# Altium schematic symbol library Diode.SchLib: 54 symbols
Pins are listed as number, name and electrical type; pins without a type are passive.

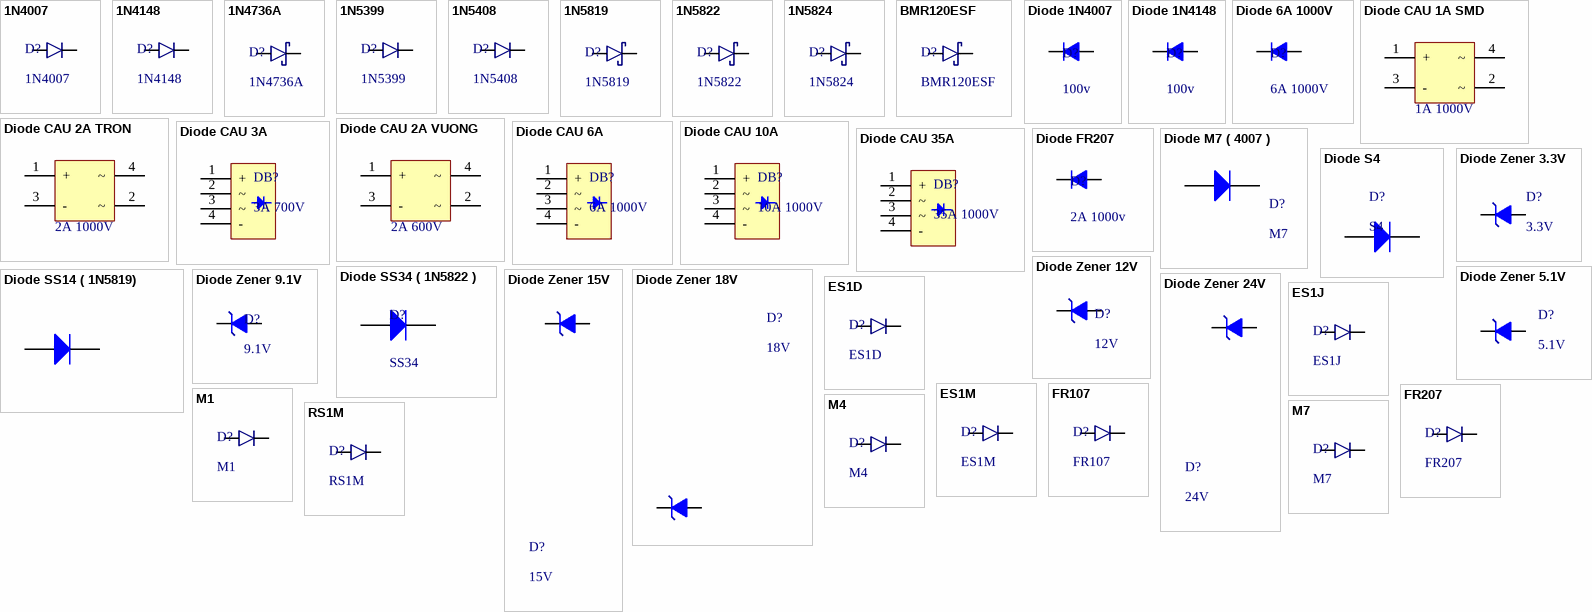
[diagram p0: symbols 1N4007 to RS1M]

## 1N4007
designator D?
Rectifier Diode 1000V 1A DO-41; Mouser PN: 637-1N4007; ComponentLink1Description: Datasheet; ComponentLink1URL: https://www.mouser.com/datasheet/2/849/1n4001-2577232.pdf; Digikey PN: 4617-1N4007TB-ND; JLCPCB PN: C3033995
footprint 1N4007 (Rectifier Diode 1000V 1A DO-41)
pins: 1, 2  

## 1N4148
designator D?
Diode Gen Purp 75V 300mA DO35; Digikey PN: 1655-1N4148CT-ND; Mouser PN: 637-1N5399; JLCPCB PN: C14516
footprint 1N4148 (Diode Gen Purp 75V 300mA DO35)
pins: 1, 2  

## 1N4736A
designator D?
Zener Diode 6.8V 1W DO-41; JLCPCB PN: C2539
footprint 1N4736A
pins: 1, 2  

## 1N5399
designator D?
Diode Gen Purp 1000V 1.5A DO15; Digikey PN: 2156-1N5399-ND; JLCPCB PN: C402215
footprint 1N5399 (Diode Gen Purp 1000V 1.5A DO15)
pins: 1, 2  

## 1N5408
designator D?
Diode Gen Purp 1000V 3A DO15; Mouser PN: 637-1N5408; Digikey PN: 2156-1N5408-ND; JLCPCB PN: C402216
footprint 1N5408 (Diode Gen Purp 1000V 3A DO15)
pins: 1, 2  

## 1N5819
designator D?
Rectifier Schottky 40V 1A DO-15; Mouser PN: 637-1N5819; ComponentLink1Description: Datasheet; ComponentLink1URL: https://www.mouser.com/datasheet/2/849/1n5817-2577238.pdf; Digikey PN: 497-6610-1-ND; JLCPCB PN: C437199
footprint 1N5819 (Rectifier Schottky 40V 1A DO-15 10mm)
pins: 1, 2  

## 1N5822
designator D?
Diode Schottky 40V 3A DO201AD; Digikey PN: 497-11370-1-ND; Mouser PN: 511-1N5822; JLCPCB PN: C3018526
footprint DO201AD
pins: 1, 2  

## 1N5824
designator D?
Diode Schottky 30V 5A DO201AD; JLCPCB PN: C508482
footprint DO201AD
pins: 1, 2  

## BMR120ESF
designator D?
Rectifier Schottky 20V 1A SOD−123FL.; ComponentLink1Description: Datasheet; ComponentLink1URL: https://www.onsemi.com/pdf/datasheet/mbr120esft1-d.pdf
footprint MBR120ESF
pins: 1, 2  

## Diode 1N4007
designator D?, comment 100v
Cắm; Ten_Linh_Kien: Diode 1N4007 1A (DIP); Don_Vi: Con; Ma_Hang: MH001063; Ghi Chu: *; Kieu_Chan: *; Chung_Loai: Cắm
footprint DIODE 1A (Diode 1A)
footprint DIODE 1A DUNG (Diode 1A DUNG)
pins: 1 A, 2 K

## Diode 1N4148
designator D?, comment 100v
Cắm; Ten_Linh_Kien: Diode 1N4148 DO35 450mA 100V ( 1N4148 DIP); Don_Vi: Con; Ma_Hang: MH001065; Ghi Chu: *; Kieu_Chan: *; Chung_Loai: Cắm
footprint DIODE 0.5A (Diode muoi, xung)
pins: 1 A, 2 K

## Diode 6A 1000V
designator D?, comment 6A 1000V
Cắm; Ten_Linh_Kien: Diode 6A10 6A 1000V (DIP); Don_Vi: Con; Ma_Hang: MH006103; Ghi Chu: *; Kieu_Chan: *; Chung_Loai: Cắm
footprint DIODE 7A (Diode 7A)
pins: 1 A, 2 K

## Diode CAU 1A SMD
designator D?, comment 1A 1000V
Dán; Ten_Linh_Kien: DBS10 SOP4 Diode Cầu 1A 1000V; Don_Vi: Con; Ma_Hang: MH009806; Ghi_Chu: *; Kieu_Chan: *; Chung_Loai: Dán
footprint DIODE CAU 1A SMD SOP4 (SOP4)
pins: 1 +, 2 ~, 3 -, 4 ~

## Diode CAU 2A TRON
designator D?, comment 2A 1000V
Cắm; Ten_Linh_Kien: Diode Cầu 2A 1000V 2W10 ( Tròn ); Don_Vi: Con; Ma_Hang: MH001205; Ghi_Chu: *; Kieu_Chan: *; Chung_Loai: Cắm
footprint DIODE CAU 1A CAM TRON
pins: 1 +, 2 ~, 3 -, 4 ~

## Diode CAU 2A VUONG
designator D?, comment 2A 600V
Cắm; Ten_Linh_Kien: Diode Cầu 2A 600V KBP206 Vuông; Don_Vi: Con; Ma_Hang: MH001206; Ghi_Chu: *; Kieu_Chan: *; Chung_Loai: Cắm
footprint DIODE CAU 2A 3A CAM
pins: 1 +, 2 ~, 3 -, 4 ~

## Diode CAU 3A
designator DB?, comment 3A 700V
Cắm; Ten_Linh_Kien: Diode Cầu 3A 700V KBP307 ( Vuông); Don_Vi: Con; Ma_Hang: MH001207; Ghi_Chu: *; Kieu_Chan: *; Chung_Loai: cắm
footprint DIODE CAU 2A 3A CAM
pins: 1 +, 2 ~, 3 ~, 4 -

## Diode CAU 6A
designator DB?, comment 6A 1000V
Cắm; Ten_Linh_Kien: Diode Cầu 6A 1000V KBL610; Don_Vi: Con; Ma_Hang: MH004297; Ghi_Chu: *; Kieu_Chan: *; Chung_Loai: cắm
footprint DIODE CAU 6A CAM
pins: 1 +, 2 ~, 3 ~, 4 -

## Diode CAU 10A
designator DB?, comment 10A 1000V
Cắm; Ten_Linh_Kien: Diode Cầu 10A 1000V KBU1010; Don_Vi: Con; Ma_Hang: MH004295; Ghi_Chu: *; Kieu_Chan: *; Chung_Loai: cắm
footprint DIODE CAU 10A CAM
pins: 1 +, 2 ~, 3 ~, 4 -

## Diode CAU 35A
designator DB?, comment 35A 1000V
Cắm; Ten_Linh_Kien: Diode Cầu 35A 1000V KBPC3510 (Loại Sắt); Don_Vi: Con; Ma_Hang: MH005029; Ghi_Chu: *; Kieu_Chan: *; Chung_Loai: cắm
footprint DIODE CAU 35A CAM (DIODE CAU 35A/1000V)
pins: 1 +, 2 ~, 3 ~, 4 -

## Diode FR207
designator D?, comment 2A 1000v
Cắm; Ten_Linh_Kien: Diode FR207 2A 1000V ( DIP); Don_Vi: Con; Ma_Hang: MH005704; Ghi Chu: *; Kieu_Chan: *; Chung_Loai: Cắm
footprint DIODE 2A (Diode 2A)
footprint DIODE 2A DUNG (Diode 2A DUNG)
pins: 1 A, 2 K

## Diode M7 ( 4007 )
designator D?, comment M7
Dán; Don_Vi: Con; Ten_Linh_Kien: Diode M7 1N4007 SMD 1A 1000V; Ma_Hang: MH000944; Chung_Loai: Dán; Ghi_Chu: *
footprint DIODE SMA (SMA)
pins: 1 A, 2 K

## Diode S4
designator D?, comment S4
Dán; Ten_Linh_Kien: Diode S4 SOD123 ( 1N5819 SOD123); Ma_Hang: MH005519; Don_Vi: Con; Ghi_Chu: *; Chung_Loai: Dán; Kieu_Chan: *
footprint DIODE SOD-123 (SOD-123)
pins: 1 A, 2 K

## Diode SS14 ( 1N5819)
designator D?, comment SS14
Dán; Ma_Hang: MH002211; Don_Vi: Con; Ten_Linh_Kien: Diode SS14 DO214 Schottky 1A 40V ( 1N5819 DO214); Chung_Loai: Dán; Ghi_Chu: *; Kieu_Chan: *
footprint DIODE SMA (SMA)
pins: 1 A, 2 K

## Diode SS34 ( 1N5822 )
designator D?, comment SS34
Dán; Don_Vi: Con; Ma_Hang: MH002104; Ten_Linh_Kien: Diode SS34 3A 40V SMA ( 1N5822 SS34A); Kieu_Chan: *; Chung_Loai: Dán
footprint DIODE SMA (SMA)
pins: 1 A, 2 K

## Diode Zener 3.3V
designator D?, comment 3.3V
Dán; Don_Vi: Con; Ma_Hang: MH002880; Ten_Linh_Kien: Diode Zener 1/2W 3.3V SMD1206 ZMM3.3; Kieu_Chan: *; Ghi_Chu: *; Chung_Loai: Dán
footprint DIODE ZENNER SMD SOD80 (SOD80)
pins: 1 A, 2 K

## Diode Zener 5.1V
designator D?, comment 5.1V
Dán; Ma_Hang: MH002881; Ten_Linh_Kien: Diode Zener 1/2W 5.1V SMD1206 ZMM5.1; Don_Vi: Con; Kieu_Chan: *; Ghi_Chu: *; Chung_Loai: Dán
footprint DIODE ZENNER SMD SOD80 (SOD80)
pins: 1 A, 2 K

## Diode Zener 9.1V
designator D?, comment 9.1V
Dán; Don_Vi: Con; Ma_Hang: MH002882; Ten_Linh_Kien: Diode Zener 1/2W 9.1V SMD1206 ZMM9.1; Ghi_Chu: *; Chung_Loai: Dán; Kieu_Chan: *
footprint DIODE ZENNER SMD SOD80 (SOD80)
pins: 1 A, 2 K

## Diode Zener 12V
designator D?, comment 12V
Dán; Ma_Hang: MH000945; Don_Vi: Con; Ten_Linh_Kien: Diode Zener 1/2W 12V SMD1206 ZMM12; Kieu_Chan: *; Ghi_Chu: *; Chung_Loai: Dán
footprint DIODE ZENNER SMD SOD80 (SOD80)
pins: 1 A, 2 K

## Diode Zener 15V
designator D?, comment 15V
Dán; Don_Vi: Con; Ma_Hang: MH002883; Ten_Linh_Kien: Diode Zener 1/2W 15V SMD1206 ZMM15; Ghi_Chu: *; Chung_Loai: Dán; Kieu_Chan: *
footprint DIODE ZENNER SMD SOD80 (SOD80)
pins: 1 A, 2 K

## Diode Zener 18V
designator D?, comment 18V
Dán; Don_Vi: Con; Ma_Hang: MH002884; Ten_Linh_Kien: Diode Zener 1/2W 18V SMD1206 ZMM18; Chung_Loai: Dán; Ghi_Chu: *; Kieu_Chan: *
footprint DIODE ZENNER SMD SOD80 (SOD80)
pins: 1 A, 2 K

## Diode Zener 24V
designator D?, comment 24V
Cắm; Don_Vi: Con; Ten_Linh_Kien: Diode Zener 1/2W 24V DIP 1N5252B; Ma_Hang: MH002878; Ghi_Chu: *; Kieu_Chan: *; Chung_Loai: Cắm
footprint DIODE ZENNER SMD SOD80 (SOD80)
pins: 1 A, 2 K

## ES1D
designator D?
Ultra Fast Recovery Rectifier 200V 1A SMA; Mouser PN: 512-ES1D; ComponentLink1Description: Datasheet; Digikey PN: ES1DFSTR-ND; JLCPCB PN: C1884566
footprint DIODE_SMA (Diode SMA)
pins: 1, 2  

## ES1J
designator D?
Ultra Fast Recovery Rectifier 600V 1A SMA; Mouser PN: 512-ES1J; ComponentLink1Description: Datasheet; Digikey PN: 4617-ES1JTR-ND; JLCPCB PN: C232830
footprint DIODE_SMA (Diode SMA)
pins: 1, 2  

## ES1M
designator D?
Ultra Fast Recovery Rectifier 1000V 1A SMA; Mouser PN: 833-ES1M-TP; ComponentLink1Description: Datasheet; Digikey PN: 1655-ES1MCT-ND; JLCPCB PN: C2891301
footprint DIODE_SMA (Diode SMA)
pins: 1, 2  

## FR107
designator D?
Diode Gen Purp 1000V 1A DO41; Digikey PN: 4617-FR107TB-ND; JLCPCB PN: C842808
footprint FR107 (Diode Gen Purp 1000V 1A DO41)
pins: 1, 2  

## FR207
designator D?
Diode Gen Purp 1000V 2A DO15; Digikey PN: 1655-FR207CT-ND; JLCPCB PN: C3011150
footprint FR207 (Diode Gen Purp 1000V 2A DO15)
pins: 1, 2  

## M1
designator D?
Rectifiers Diode 50V 1A SMA; ComponentLink1Description: Datasheet; Mouser PN: 637-M7; Digikey PN: 3191-M7CT-ND; JLCPCB PN: C2909964
footprint DIODE_SMA (Diode SMA)
pins: 1, 2  

## M4
designator D?
Rectifiers Diode 400V 1A SMA; ComponentLink1Description: Datasheet; Mouser PN: 637-M4; Digikey PN: 3372-M4TR-ND; JLCPCB PN: C383019
footprint DIODE_SMA (Diode SMA)
pins: 1, 2  

## M7
designator D?
Rectifiers Diode 1000V 1A SMA; ComponentLink1Description: Datasheet; Mouser PN: 637-M7; Digikey PN: 3191-M7CT-ND; JLCPCB PN: C330214
footprint DIODE_SMA (Diode SMA)
pins: 1, 2  

## RS1M
designator D?
Fast Recovery Rectifier 1000V 1A SMA; Mouser PN: 512-RS1M; ComponentLink1Description: Datasheet; Digikey PN: 1655-RS1MTR-ND; JLCPCB PN: C2931775
footprint DIODE_SMA (Diode SMA)
pins: 1, 2  

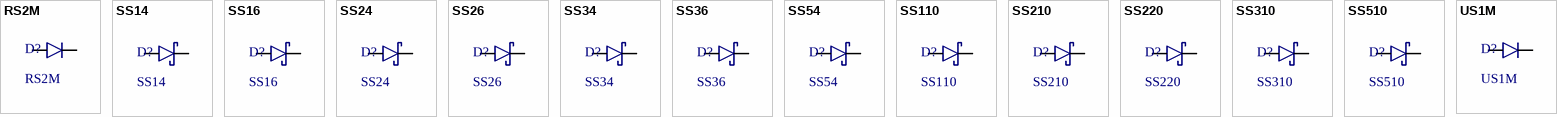
[diagram p1: symbols RS2M to US1M]

## RS2M
designator D?
Fast Recovery Rectifier 1000V 2A SMA; Mouser PN: 821-RS2M; ComponentLink1Description: Datasheet; Digikey PN: 1801-RS2MTR-ND; JLCPCB PN: C2931776
footprint DIODE_SMA (Diode SMA)
pins: 1, 2  

## SS14
designator D?
Rectifier Schottky 40V 1A SMA; Mouser PN: 512-SS14; ComponentLink1Description: Datasheet; Digikey PN: SS14-E3/5ATGITR-ND; JLCPCB PN: C2837270
footprint DIODE_SMA (Diode SMA)
pins: 1, 2  

## SS16
designator D?
Rectifier Schottky 60V 1A SMA; Mouser PN: 821-SS16; ComponentLink1Description: Datasheet; Digikey PN: 2156-SS16-ND; JLCPCB PN: C908233
footprint DIODE_SMA (Diode SMA)
pins: 1, 2  

## SS24
designator D?
Rectifier Schottky 40V 2A SMA; Mouser PN: 821-SS24; ComponentLink1Description: Datasheet; Digikey PN: SS24S-M3/5ATGITR-ND; JLCPCB PN: C727055
footprint DIODE_SMA (Diode SMA)
pins: 1, 2  

## SS26
designator D?
Rectifier Schottky 60V 2A SMA; Mouser PN: 821-SS26; ComponentLink1Description: Datasheet; Digikey PN: 2156-SS26-ND; JLCPCB PN: C5123304
footprint DIODE_SMA (Diode SMA)
pins: 1, 2  

## SS34
designator D?
Rectifier Schottky 40V 3A SMA; Mouser PN: 512-SS34; ComponentLink1Description: Datasheet; Digikey PN: SS34FSTR-ND; JLCPCB: C2909963
footprint DIODE_SMA (Diode SMA)
pins: 1, 2  

## SS36
designator D?
Rectifier Schottky 60V 3A SMA; Mouser PN: 512-SS36; ComponentLink1Description: Datasheet; Digikey PN: SS36FSTR-ND; JLCPCB PN: C3011103
footprint DIODE_SMA (Diode SMA)
pins: 1, 2  

## SS54
designator D?
Rectifier Schottky 40V 5A SMA; JLCPCB PN: C727065
footprint DIODE_SMA (Diode SMA)
pins: 1, 2  

## SS110
designator D?
Rectifier Schottky 100V 1A SMA; Mouser PN: 821-SS110; ComponentLink1Description: Datasheet; Digikey PN: 1655-SS110TR-ND; JLCPCB PN: C727053
footprint DIODE_SMA (Diode SMA)
pins: 1, 2  

## SS210
designator D?
Rectifier Schottky 100V 2A SMB; Mouser PN: 821-SS210; ComponentLink1Description: Datasheet; Digikey PN: 1801-SS210TR-ND; JLCPCB PN: C3033282
footprint DIODE_SMB (Diode SMB)
pins: 1, 2  

## SS220
designator D?
Rectifier Schottky 200V 2A SMA; Mouser PN: 750-SS220-HF; ComponentLink1Description: Datasheet; Digikey PN: 4617-SS220TR-ND; JLCPCB PN: C432147
footprint DIODE_SMA (Diode SMA)
pins: 1, 2  

## SS310
designator D?
Rectifier Schottky 100V 3A SMB; Mouser PN: 821-SS310; ComponentLink1Description: Datasheet; Digikey PN: 1801-SS310TR-ND; JLCPCB PN: C330484
footprint DIODE_SMB (Diode SMB)
pins: 1, 2  

## SS510
designator D?
Rectifier Schottky 100V 5A SMC; Mouser PN: 750-SS510-HF; ComponentLink1Description: Datasheet; Digikey PN: 4617-SS510TR-ND; JLCPCB PN: C2887672
footprint DIODE_SMC (Diode SMC)
pins: 1, 2  

## US1M
designator D?
High Efficient Recovery Rectifier 1000V 1A SMA; Mouser PN: 821-US1M; ComponentLink1Description: Datasheet; Digikey PN: 4617-US1MTR-ND; JLCPCB PN: C330229
footprint DIODE_SMA (Diode SMA)
pins: 1, 2  